# EAGLE library part 64902429522 (library Wire-to-Board (rev18a))
WR-MPC4-4.20mm Male Dual Row Angled Header,24 pins=>Code : WR-MPC4_Stiftbuchse_2reihig_abgewinkelt_64902429522 <http://katalog.we-online.de/media/thumbs2/eican/thb_WR-MPC4_Stiftbuchse_2reihig_abgewinkelt_64901029522.jpg> Details see: http://katalog.we-online.de/en/em/MPC4_4_20_MALE_DUAL_ROW_ANGLED_HEADER_6490XX29522 Created 2014-06-06, Karrer Zheng 2014 (C) Würth Elektronik
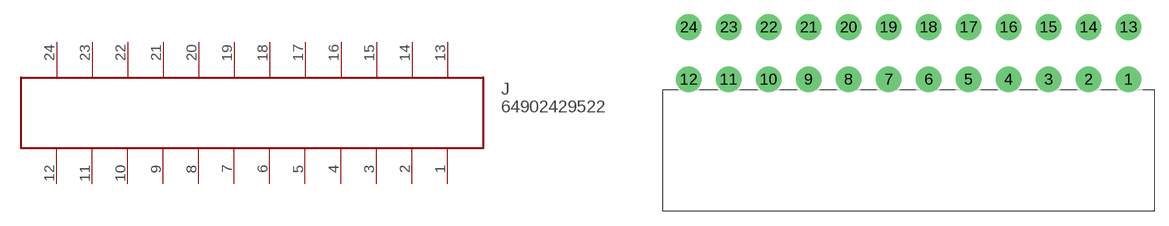
[diagram p324: symbol with the pads of 64902429522; footprint 64902429522]

Designator prefix J

## 64902429522  [64902429522]
1  1
2  2
3  3
4  4
5  5
6  6
7  7
8  8
9  9
10  10
11  11
12  12
13  13
14  14
15  15
16  16
17  17
18  18
19  19
20  20
21  21
22  22
23  23
24  24

## Footprint 64902429522 (pad centres in mm)
WR-MPC4-4.20mm Male Dual Row Angled Header,24 pins
drill 1.8: 1 23.1,-2.75; 2 18.9,-2.75; 3 14.7,-2.75; 4 10.5,-2.75; 5 6.3,-2.75; 6 2.1,-2.75; 7 -2.1,-2.75; 8 -6.3,-2.75; 9 -10.5,-2.75; 10 -14.7,-2.75; 11 -18.9,-2.75; 12 -23.1,-2.75; 13 23.1,2.75; 14 18.9,2.75; 15 14.7,2.75; 16 10.5,2.75; 17 6.3,2.75; 18 2.1,2.75; 19 -2.1,2.75; 20 -6.3,2.75; 21 -10.5,2.75; 22 -14.7,2.75; 23 -18.9,2.75; 24 -23.1,2.75